# Altium footprint library flexypin.PcbLib: 1 footprints
Each footprint in its own frame and in the unit in brackets; x right, y up, seen from the top. Pads: shape width x height; smd on the part's side, far side on the other; paste and mask are expansions set on the pad; w line width, h text height; cw(c..) or ccw(c..) is an arc to the next point about the centre after c.
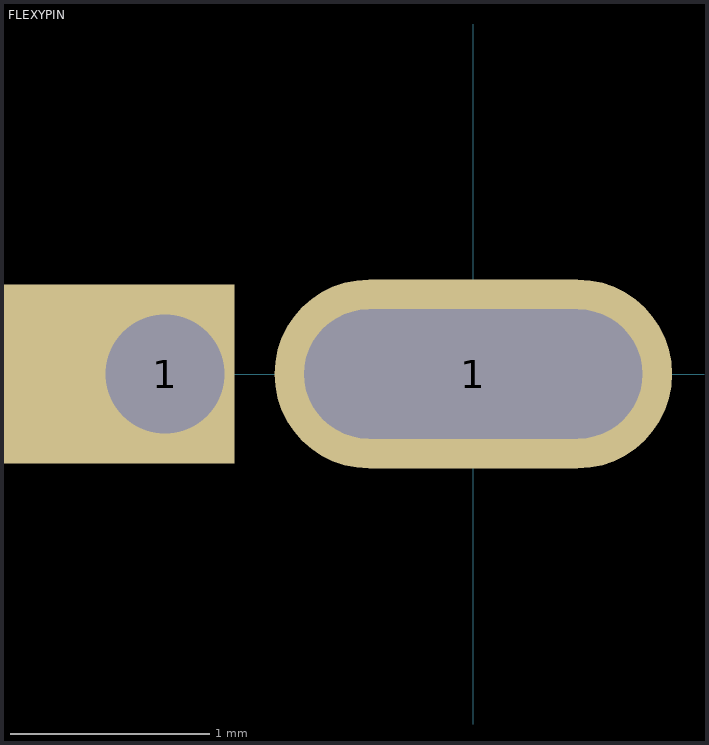
[diagram p0: the footprint, top view; thin cyan lines are the x and y axes]

## FLEXYPIN [mm]
pads (2):
  rect 1.3x0.9 hole 0.6 copper offset -0.3,0 mask+0.1: 1(-1.55,0)
  oval 2x0.95 hole 0.65 slot 1.7 at 0 deg mask+0: 1(0,0)